# Altium integrated library 691317410002(2-pin terminal).IntLib: 1 symbol
Pins are listed as number, name and electrical type; pins without a type are passive.

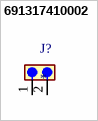
[diagram p0: symbol 691317410002]

## 691317410002
designator J?
TERMINAL BLOCK, R/A HEADER, 2POS, TH;; MF: WÃ¼rth Elektronik; MP: 691317410002; SnapEDA_Link: https://www.snapeda.com/parts/691317410002/W%25C3%25BCrth+Elektronik+Midcom/view-part/?ref=snap; Package: None; Value: *; Check_prices: https://www.snapeda.com/parts/691317410002/W%25C3%25BCrth+Elektronik+Midcom/view-part/?ref=eda
footprint 691317410002
pins: 1, 2